# Altium footprint library 687 1xx 149 022.PcbLib: 22 footprints (part 2 of 2)
Each footprint in its own frame and in the unit in brackets; x right, y up, seen from the top. Pads: shape width x height; smd on the part's side, far side on the other; paste and mask are expansions set on the pad; w line width, h text height; cw(c..) or ccw(c..) is an arc to the next point about the centre after c.
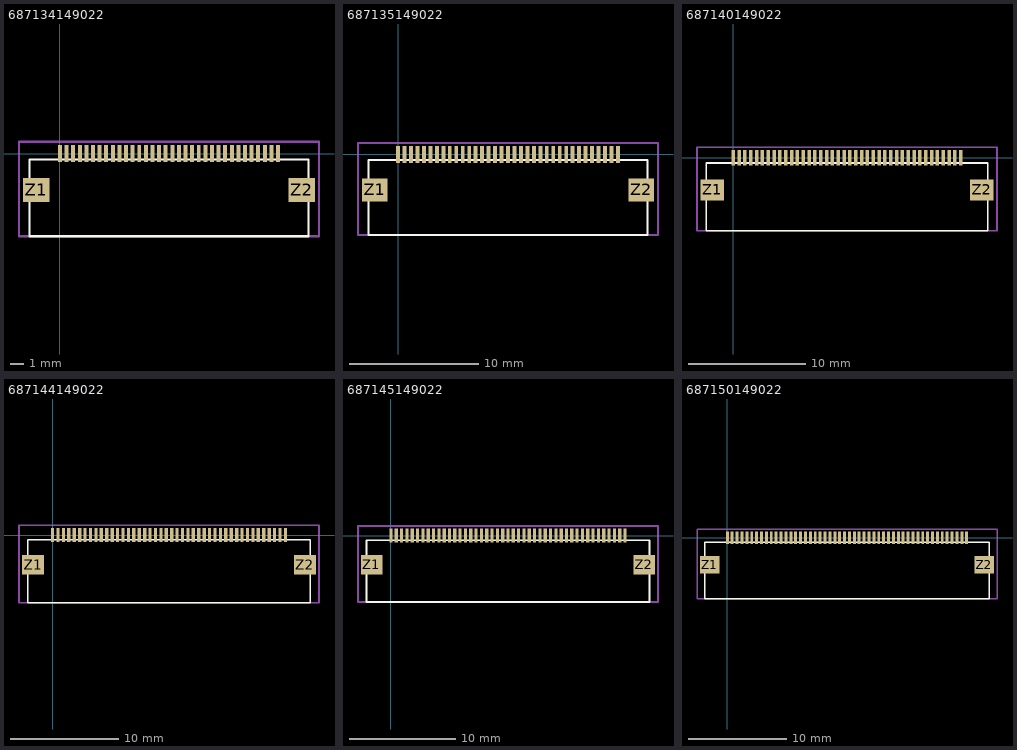
[diagram p1: the footprints below, top view; thin cyan lines are the x and y axes]

## 687134149022 [mm] "WR-FPC 0.50mm SMT Horiz. Bot. Contact Hinge type WR-FPC 0.50mm 34pins Hinge type SMT Horizontal Bottom Contact"
pads (36):
  rect 0.3x1.3 smd: 1(0,0) 2(0.5,0) 3(1,0) 4(1.5,0) 5(2,0) 6(2.5,0) 7(3,0) 8(3.5,0) 9(4,0) 10(4.5,0) 11(5,0) 12(5.5,0) 13(6,0) 14(6.5,0) 15(7,0) 16(7.5,0) 17(8,0) 18(8.5,0) 19(9,0) 20(9.5,0) 21(10,0) 22(10.5,0) 23(11,0) 24(11.5,0) 25(12,0) 26(12.5,0) 27(13,0) 28(13.5,0) 29(14,0) 30(14.5,0) 31(15,0) 32(15.5,0) 33(16,0) 34(16.5,0)
  rect 2x1.8 smd: Z1(-1.8,-2.75) Z2(18.3,-2.75)
Top Overlay:
  lines w0.152: -2.3,-6.25 18.8,-6.25 18.8,-0.45 -2.3,-0.45 -2.3,-6.25
Mechanical 15:
  lines w0.152: -3.1,-6.25 19.6,-6.25 19.6,0.9 -3.1,0.9 -3.1,-6.25
3D body: height 2.25, standoff 0, extent -2.3,-6.25 18.8,0.25

## 687135149022 [mm] "WR-FPC 0.50mm SMT Horiz. Bot. Contact Hinge type WR-FPC 0.50mm 35pins Hinge type SMT Horizontal Bottom Contact"
pads (37):
  rect 0.3x1.3 smd: 1(0,0) 2(0.5,0) 3(1,0) 4(1.5,0) 5(2,0) 6(2.5,0) 7(3,0) 8(3.5,0) 9(4,0) 10(4.5,0) 11(5,0) 12(5.5,0) 13(6,0) 14(6.5,0) 15(7,0) 16(7.5,0) 17(8,0) 18(8.5,0) 19(9,0) 20(9.5,0) 21(10,0) 22(10.5,0) 23(11,0) 24(11.5,0) 25(12,0) 26(12.5,0) 27(13,0) 28(13.5,0) 29(14,0) 30(14.5,0) 31(15,0) 32(15.5,0) 33(16,0) 34(16.5,0) 35(17,0)
  rect 2x1.8 smd: Z1(-1.8,-2.75) Z2(18.8,-2.75)
Top Overlay:
  lines w0.152: -2.3,-6.25 19.3,-6.25 19.3,-0.45 -2.3,-0.45 -2.3,-6.25
Mechanical 15:
  lines w0.152: -3.1,-6.25 20.1,-6.25 20.1,0.9 -3.1,0.9 -3.1,-6.25
3D body: height 2.25, standoff 0, extent -2.3,-6.25 19.3,0.25

## 687140149022 [mm] "WR-FPC 0.50mm SMT Horiz. Bot. Contact Hinge type WR-FPC 0.50mm 40pins Hinge type SMT Horizontal Bottom Contact"
pads (42):
  rect 0.3x1.3 smd: 1(0,0) 2(0.5,0) 3(1,0) 4(1.5,0) 5(2,0) 6(2.5,0) 7(3,0) 8(3.5,0) 9(4,0) 10(4.5,0) 11(5,0) 12(5.5,0) 13(6,0) 14(6.5,0) 15(7,0) 16(7.5,0) 17(8,0) 18(8.5,0) 19(9,0) 20(9.5,0) 21(10,0) 22(10.5,0) 23(11,0) 24(11.5,0) 25(12,0) 26(12.5,0) 27(13,0) 28(13.5,0) 29(14,0) 30(14.5,0) 31(15,0) 32(15.5,0) 33(16,0) 34(16.5,0) 35(17,0) 36(17.5,0) 37(18,0) 38(18.5,0) 39(19,0) 40(19.5,0)
  rect 2x1.8 smd: Z1(-1.8,-2.75) Z2(21.3,-2.75)
Top Overlay:
  lines w0.152: -2.3,-6.25 21.8,-6.25 21.8,-0.45 -2.3,-0.45 -2.3,-6.25
Mechanical 15:
  lines w0.152: -3.1,-6.25 22.6,-6.25 22.6,0.9 -3.1,0.9 -3.1,-6.25
3D body: height 2.25, standoff 0, extent -2.3,-6.25 21.8,0.25

## 687144149022 [mm] "WR-FPC 0.50mm SMT Horiz. Bot. Contact Hinge type WR-FPC 0.50mm 44pins Hinge type SMT Horizontal Bottom Contact"
pads (46):
  rect 0.3x1.3 smd: 1(0,0) 2(0.5,0) 3(1,0) 4(1.5,0) 5(2,0) 6(2.5,0) 7(3,0) 8(3.5,0) 9(4,0) 10(4.5,0) 11(5,0) 12(5.5,0) 13(6,0) 14(6.5,0) 15(7,0) 16(7.5,0) 17(8,0) 18(8.5,0) 19(9,0) 20(9.5,0) 21(10,0) 22(10.5,0) 23(11,0) 24(11.5,0) 25(12,0) 26(12.5,0) 27(13,0) 28(13.5,0) 29(14,0) 30(14.5,0) 31(15,0) 32(15.5,0) 33(16,0) 34(16.5,0) 35(17,0) 36(17.5,0) 37(18,0) 38(18.5,0) 39(19,0) 40(19.5,0) 41(20,0) 42(20.5,0) 43(21,0) 44(21.5,0)
  rect 2x1.8 smd: Z1(-1.8,-2.75) Z2(23.3,-2.75)
Top Overlay:
  lines w0.152: -2.3,-6.25 -2.3,-0.45 23.8,-0.45 23.8,-6.25 -2.3,-6.25
Mechanical 15:
  lines w0.152: -3.1,-6.25 -3.1,0.9 24.6,0.9 24.6,-6.25 -3.1,-6.25
3D body: height 2.25, standoff 0, extent -2.3,-6.25 23.8,0.25

## 687145149022 [mm] "WR-FPC 0.50mm SMT Horiz. Bot. Contact Hinge type WR-FPC 0.50mm 45pins Hinge type SMT Horizontal Bottom Contact"
pads (47):
  rect 0.3x1.3 smd: 1(0,0) 2(0.5,0) 3(1,0) 4(1.5,0) 5(2,0) 6(2.5,0) 7(3,0) 8(3.5,0) 9(4,0) 10(4.5,0) 11(5,0) 12(5.5,0) 13(6,0) 14(6.5,0) 15(7,0) 16(7.5,0) 17(8,0) 18(8.5,0) 19(9,0) 20(9.5,0) 21(10,0) 22(10.5,0) 23(11,0) 24(11.5,0) 25(12,0) 26(12.5,0) 27(13,0) 28(13.5,0) 29(14,0) 30(14.5,0) 31(15,0) 32(15.5,0) 33(16,0) 34(16.5,0) 35(17,0) 36(17.5,0) 37(18,0) 38(18.5,0) 39(19,0) 40(19.5,0) 41(20,0) 42(20.5,0) 43(21,0) 44(21.5,0) 45(22,0)
  rect 2x1.8 smd: Z1(-1.8,-2.75) Z2(23.8,-2.75)
Top Overlay:
  lines w0.152: -2.3,-6.25 -2.3,-0.45 24.3,-0.45 24.3,-6.25 -2.3,-6.25
Mechanical 15:
  lines w0.152: -3.1,-6.25 -3.1,0.9 25.1,0.9 25.1,-6.25 -3.1,-6.25
3D body: height 2.25, standoff 0, extent -2.3,-6.25 24.3,0.25

## 687150149022 [mm] "WR-FPC 0.50mm SMT Horiz. Bot. Contact Hinge type WR-FPC 0.50mm 50pins Hinge type SMT Horizontal Bottom Contact"
pads (52):
  rect 0.3x1.3 smd: 1(0,0) 2(0.5,0) 3(1,0) 4(1.5,0) 5(2,0) 6(2.5,0) 7(3,0) 8(3.5,0) 9(4,0) 10(4.5,0) 11(5,0) 12(5.5,0) 13(6,0) 14(6.5,0) 15(7,0) 16(7.5,0) 17(8,0) 18(8.5,0) 19(9,0) 20(9.5,0) 21(10,0) 22(10.5,0) 23(11,0) 24(11.5,0) 25(12,0) 26(12.5,0) 27(13,0) 28(13.5,0) 29(14,0) 30(14.5,0) 31(15,0) 32(15.5,0) 33(16,0) 34(16.5,0) 35(17,0) 36(17.5,0) 37(18,0) 38(18.5,0) 39(19,0) 40(19.5,0) 41(20,0) 42(20.5,0) 43(21,0) 44(21.5,0) 45(22,0) 46(22.5,0) 47(23,0) 48(23.5,0) 49(24,0) 50(24.5,0)
  rect 2x1.8 smd: Z1(-1.8,-2.75) Z2(26.3,-2.75)
Top Overlay:
  lines w0.152: -2.3,-6.25 26.8,-6.25 26.8,-0.45 -2.3,-0.45 -2.3,-6.25
Mechanical 15:
  lines w0.152: -3.1,-6.25 27.6,-6.25 27.6,0.9 -3.1,0.9 -3.1,-6.25
3D body: height 2.25, standoff 0, extent -2.3,-6.25 26.8,0.25